# Altium footprint library Switch.PcbLib: 2 footprints
Each footprint in its own frame and in the unit in brackets; x right, y up, seen from the top. Pads: shape width x height; smd on the part's side, far side on the other; paste and mask are expansions set on the pad; w line width, h text height; cw(c..) or ccw(c..) is an arc to the next point about the centre after c.
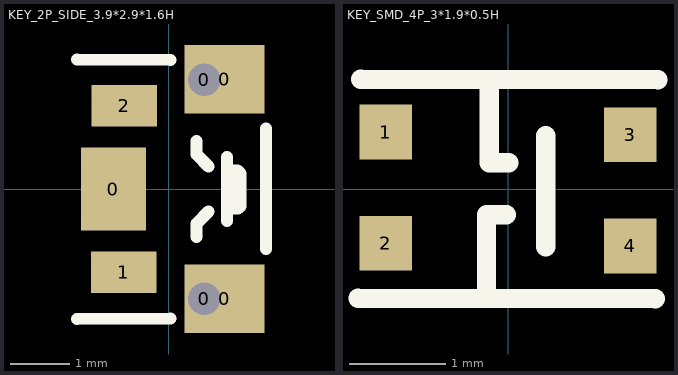
[diagram p0: the footprints below, top view; thin cyan lines are the x and y axes]

## KEY_2P_SIDE_3.9*2.9*1.6H [mm]
pads (7):
  rect 1.1x1.4 smd: 0(-0.935,0)
  round 0.4 hole 0.55: 0(0.595,-1.85) 0(0.595,1.84)
  rect 1.35x1.15 smd: 0(0.935,-1.85) 0(0.935,1.85)
  rect 1.1x0.7 smd: 1(-0.759,-1.404) 2(-0.755,1.4)
Top Overlay:
  rectangle: 1.065,-0.33 1.165,0.31
  lines w0.203: -1.545,-2.19 0.025,-2.18 ; -1.545,2.18 0.025,2.17 ; 0.465,-0.81 0.465,-0.58 0.665,-0.38 ; 0.465,0.81 0.465,0.58 0.665,0.38 ; 0.975,-0.54 0.975,0.54 ; 0.975,-0.33 1.165,-0.33 1.205,-0.29 1.205,0.26 1.155,0.31 1.065,0.31 ; 1.635,-1.01 1.635,1.02

## KEY_SMD_4P_3*1.9*0.5H [mm]
pads (4):
  rect 0.55x0.57 smd: 1(-1.274,0.594) 2(-1.274,-0.566) 3(1.274,0.566) 4(1.274,-0.594)
Top Overlay:
  lines w0.203: -1.564,-1.138 1.536,-1.146 ; -1.536,1.146 1.564,1.138 ; -0.224,-1.118 -0.224,-0.268 -0.02,-0.268 ; -0.196,1.126 -0.196,0.276 0.008,0.276 ; 0.394,-0.604 0.394,0.556